# Altium schematic symbol library DPAdapter.SchLib: 4 symbols
Pins are listed as number, name and electrical type; pins without a type are passive.

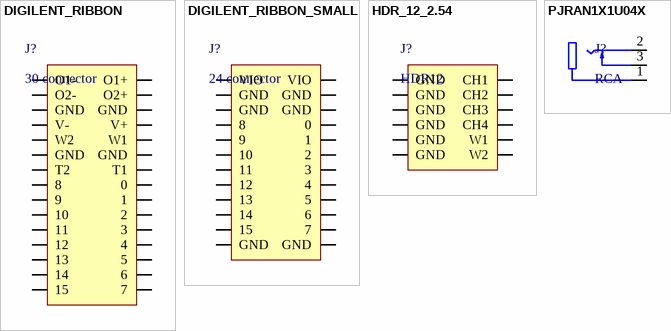
[diagram p0: symbols DIGILENT_RIBBON to PJRAN1X1U04X]

## DIGILENT_RIBBON
designator J?, comment 30 connector
footprint AWHW_30_254
pins: 1 O1+, 2 O2+, 3 GND, 4 V+, 5 W1, 6 GND, 7 T1, 8 0, 9 1, 10 2, 11 3, 12 4, 13 5, 14 6, 15 7, 16 O1-, 17 O2-, 18 GND, 19 V-, 20 W2, 21 GND, 22 T2, 23 8, 24 9, 25 10, 26 11, 27 12, 28 13, 29 14, 30 15

## DIGILENT_RIBBON_SMALL
designator J?, comment 24 connector
footprint AWHW_24_254
pins: 1 VIO, 2 GND, 3 GND, 4 0, 5 1, 6 2, 7 3, 8 4, 9 5, 10 6, 11 7, 12 GND, 13 VIO, 14 GND, 15 GND, 16 8, 17 9, 18 10, 19 11, 20 12, 21 13, 22 14, 23 15, 24 GND

## HDR_12_2.54
designator J?, comment HDR12
footprint HDR12_2.54
pins: 1 CH1, 2 CH2, 3 CH3, 4 CH4, 5 W1, 6 W2, 7 GND, 8 GND, 9 GND, 10 GND, 11 GND, 12 GND

## PJRAN1X1U04X
designator J?, comment RCA
3.20mm ID, 9.00mm OD (RCA) Phono (RCA) Jack Mono Connector Solder; MF: Switchcraft Inc.; MP: PJRAN1X1U04X; Price: None; Value: *; Check_prices: https://www.snapeda.com/parts/PJRAN1X1U04X/Switchcraft%20Inc./view-part/64730/?ref=eda; Package: None; Availability: In Stock; SnapEDA_Link: https://www.snapeda.com/parts/PJRAN1X1U04X/Switchcraft%20Inc./view-part/64730/?ref=snap
footprint PJRAN1X1U
pins: 1 SLEEVE, 2 TIP, 3 SHUNT